# Altium footprint library radio.PcbLib: 2 footprints
Each footprint in its own frame and in the unit in brackets; x right, y up, seen from the top. Pads: shape width x height; smd on the part's side, far side on the other; paste and mask are expansions set on the pad; w line width, h text height; cw(c..) or ccw(c..) is an arc to the next point about the centre after c.
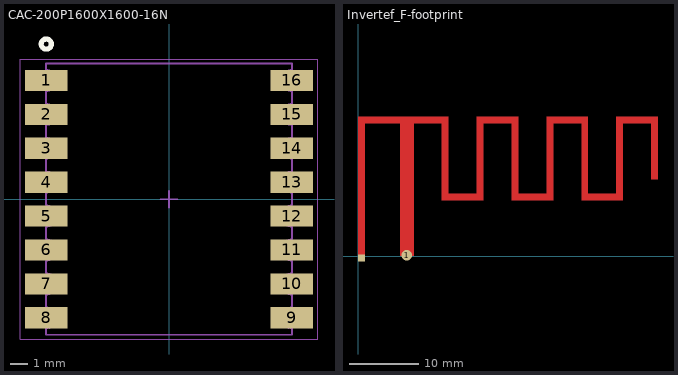
[diagram p0: the footprints below, top view; thin cyan lines are the x and y axes]

## CAC-200P1600X1600-16N [mm] "Chip Array, Concave, 16-Leads, Pitch 2.00mm,  Body 16.00x16.00mm,  IPC Medium Density"
height 1.8
pads (16):
  rect 2.5x1.25 smd: 1(-7.25,7) 2(-7.25,5) 3(-7.25,3) 4(-7.25,1) 5(-7.25,-1) 6(-7.25,-3) 7(-7.25,-5) 8(-7.25,-7) 9(7.25,-7) 10(7.25,-5) 11(7.25,-3) 12(7.25,-1) 13(7.25,1) 14(7.25,3) 15(7.25,5) 16(7.25,7)
Top Overlay:
  circle w0.3: c-7.239,9.144 r0.3
Mechanical 13:
  lines w0.1: -7.25,-8 7.25,-8 7.25,-7.63 cw(c7.25,-7) 7.25,-6.37 7.25,-5.63 cw(c7.25,-5) 7.25,-4.37 7.25,-3.63 cw(c7.25,-3) 7.25,-2.37 7.25,-1.63 cw(c7.25,-1) 7.25,-0.37 7.25,0.37 cw(c7.25,1) 7.25,1.63 7.25,2.37 cw(c7.25,3) 7.25,3.63 7.25,4.37 cw(c7.25,5) 7.25,5.63 7.25,6.37 cw(c7.25,7) 7.25,7.63 7.25,8 -7.25,8 -7.25,7.63 cw(c-7.25,7) -7.25,6.37 -7.25,5.63 cw(c-7.25,5) -7.25,4.37 -7.25,3.63 cw(c-7.25,3) -7.25,2.37 -7.25,1.63 cw(c-7.25,1) -7.25,0.37 -7.25,-0.37 cw(c-7.25,-1) -7.25,-1.63 -7.25,-2.37 cw(c-7.25,-3) -7.25,-3.63 -7.25,-4.37 cw(c-7.25,-5) -7.25,-5.63 -7.25,-6.37 cw(c-7.25,-7) -7.25,-7.63 -7.25,-8
Mechanical 15:
  lines w0.05: -8.77,-8.25 8.77,-8.25 8.77,8.25 -8.77,8.25 -8.77,-8.25
  lines w0.1: -0.5,0 0.5,0 ; 0,-0.5 0,0.5
3D body "CAC-200P1600X1600-16N.step": height 1.8, standoff 0, extent -8.05,-8 8.05,8

## Invertef_F-footprint [mil]
pads (2):
  round 60 smd paste-99999 mask+0: 1(275,5)
  rect 39.37x39.37 smd paste-99999 mask+0: 2(19.68,-10)
Top Layer:
  rectangle: 0,0 39.37,787.4
  rectangle: 472.44,314.96 708.66,354.33
  rectangle: 1062.99,748.03 1299.21,787.4
  rectangle: 1456.69,314.96 1496.06,787.4
  rectangle: 866.14,314.96 905.51,787.4
  rectangle: 1259.84,314.96 1496.06,354.33
  rectangle: 1653.54,433.07 1692.91,787.4
  rectangle: 472.44,314.96 511.81,787.4
  rectangle: 866.14,314.96 1102.36,354.33
  rectangle: 1062.99,314.96 1102.36,787.4
  rectangle: 19.68,748.03 492.13,787.4
  rectangle: 669.29,748.03 905.51,787.4
  rectangle: 236.22,0 314.96,787.4
  rectangle: 669.29,314.96 708.66,787.4
  rectangle: 1259.84,314.96 1299.21,787.4
  rectangle: 1456.69,748.03 1692.91,787.4
Top Solder:
  rectangle: 866.14,314.96 905.51,787.4
  rectangle: 19.68,748.03 492.13,787.4
  rectangle: 1456.69,748.03 1692.91,787.4
  rectangle: 1456.69,314.96 1496.06,787.4
  rectangle: 1062.99,314.96 1102.36,787.4
  rectangle: 1259.84,314.96 1299.21,787.4
  rectangle: 1062.99,748.03 1299.21,787.4
  rectangle: 866.14,314.96 1102.36,354.33
  rectangle: 236.22,0 314.96,787.4
  rectangle: 472.44,314.96 708.66,354.33
  rectangle: 472.44,314.96 511.81,787.4
  rectangle: 1653.54,433.07 1692.91,787.4
  rectangle: 669.29,314.96 708.66,787.4
  rectangle: 669.29,748.03 905.51,787.4
  rectangle: 0,0 39.37,787.4
  rectangle: 1259.84,314.96 1496.06,354.33